# EAGLE library part ADXL345 (library xnemo)
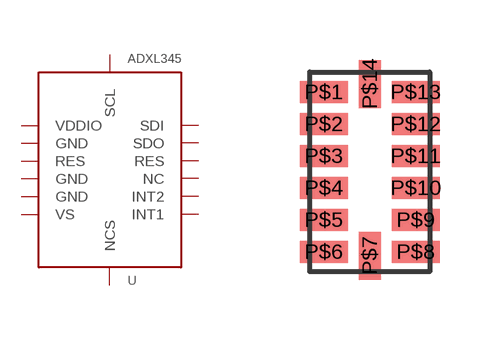
[diagram p5: symbol with the pads of AD_LGA14_3X5; footprint AD_LGA14_3X5]

Designator prefix U

## ADXL345  [AD_LGA14_3X5]
P$1  VDDIO
P$2  GND
P$3  RES
P$4  GND
P$5  GND
P$6  VS
P$7  NCS
P$8  INT1
P$9  INT2
P$10  NC
P$11  RES
P$12  SDO
P$13  SDI
P$14  SCL

## Footprint AD_LGA14_3X5 (pad centres in mm)
smd 1.2 x 0.55: P$1 -1.15,2; P$2 -1.15,1.2; P$3 -1.15,0.4; P$4 -1.15,-0.4; P$5 -1.15,-1.2; P$6 -1.15,-2; P$8 1.15,-2; P$9 1.15,-1.2; P$10 1.15,-0.4; P$11 1.15,0.4; P$12 1.15,1.2; P$13 1.15,2
smd 0.55 x 1.2: P$7 0,-2.1; P$14 0,2.2